# Altium schematic symbol library SMA.SchLib: 1 symbol
Pins are listed as number, name and electrical type; pins without a type are passive.

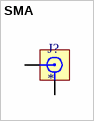
[diagram p0: symbol SMA]

## SMA
designator J?
pins: 1, 2